# EAGLE library part TPS73533_DRV_6 (library Micro2)
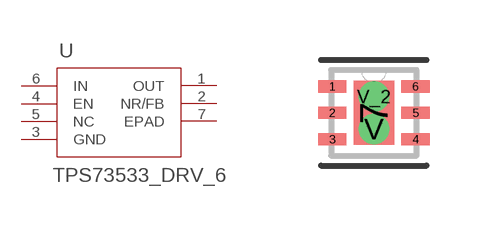
[diagram p14: symbol with the pads of DRV6_1P6X1; footprint DRV6_1P6X1]

Designator prefix U

## TPS73533_DRV_6 (DATASHEETURL: http://www.ti.com/lit/gpn/TPS73533; DESCRIPTION: Single Output LDO, 500mA, Fixed (3.3V), Low Quiescent Current, Low Noise, High PSRR; FAMILY_NAME: SINGLE CHANNEL LDO; GENERIC_PART_NUMBER: TPS73533; INDUSTRY_STD_PKG_TYPE: SON; MANUFACTURER: Texas Instruments; MANUFACTURER_PART_NUMBER: tps73533_drv_6; PACKAGE_DESIGNATOR: DRV; PIN_COUNT: 6; VENDOR: Texas Instruments)  [DRV6_1P6X1]
1  OUT  pwr
2  NR/FB
3  GND  pwr
4  EN  pas
5  NC  pas
6  IN  in
7  EPAD  pas

## Footprint DRV6_1P6X1 (pad centres in mm)
smd 0.711 x 0.305: 1 -1.041,0.66; 2 -1.041,0; 3 -1.041,-0.66; 4 1.041,-0.66; 5 1.041,0; 6 1.041,0.66
smd 1.016 x 1.6: 7 0,0
drill 0.254: V 0,-0.406; V_2 0,0.406